# Altium footprint library Diodes.PcbLib: 22 footprints (part 2 of 2)
Each footprint in its own frame and in the unit in brackets; x right, y up, seen from the top. Pads: shape width x height; smd on the part's side, far side on the other; paste and mask are expansions set on the pad; w line width, h text height; cw(c..) or ccw(c..) is an arc to the next point about the centre after c.
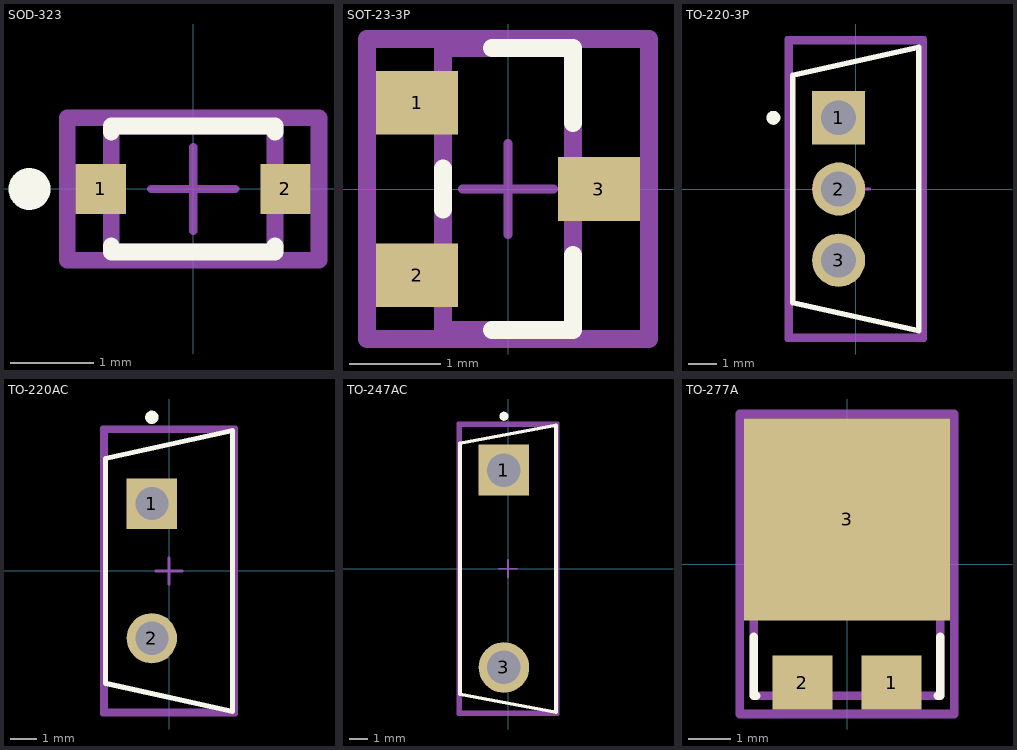
[diagram p1: the footprints below, top view; thin cyan lines are the x and y axes]

## SOD-323 [mm]
pads (2):
  rect 0.6x0.6 smd paste+0 mask+0: 1(-1.1,0) 2(1.1,0)
Top Overlay:
  circle w0.25: c-1.95,0 r0.125
  lines w0.2: -0.975,-0.675 -0.975,-0.75 0.975,-0.75 0.975,-0.675 ; -0.975,0.675 -0.975,0.75 0.975,0.75 0.975,0.675
Top Assembly:
  lines w0.2: -1.5,-0.85 -1.5,0.85 1.5,0.85 1.5,-0.85 -1.5,-0.85
Top 3D Body:
  lines w0.2: -0.975,-0.75 -0.975,0.75 0.975,0.75 0.975,-0.75 -0.975,-0.75
Top Courtyard:
  lines w0.2: -1.5,-0.85 -1.5,0.85 1.5,0.85 1.5,-0.85 -1.5,-0.85
Top Component Center:
  lines w0.1: -0.5,0 0.5,0 ; 0,-0.5 0,0.5
3D body "Diode_Vishay_Semiconductor_1N4148WS-V-GS18_eec.STEP": height 0.25, standoff 0, extent -1.5,-0.85 1.5,0.85

## SOT-23-3P [mm]
pads (3):
  rect 0.9x0.7 smd paste+0 mask+0: 1(-1,0.95) 2(-1,-0.95) 3(1,0)
Top Overlay:
  lines w0.2: -0.715,-0.225 -0.715,0.225 ; -0.175,-1.55 0.715,-1.55 0.715,-0.725 ; -0.175,1.55 0.715,1.55 0.715,0.725
Top Assembly:
  lines w0.2: -1.55,-1.65 -1.55,1.65 1.55,1.65 1.55,-1.65 -1.55,-1.65
Top 3D Body:
  lines w0.2: -0.715,-1.55 -0.715,1.55 0.715,1.55 0.715,-1.55 -0.715,-1.55
Top Courtyard:
  lines w0.2: -1.55,-1.65 -1.55,1.65 1.55,1.65 1.55,-1.65 -1.55,-1.65
Top Component Center:
  lines w0.1: -0.5,0 0.5,0 ; 0,-0.5 0,0.5
3D body "Diode_Vishay_BAT54S-E3-08_eec.STEP": height 0.25, standoff 0, extent -1.55,-1.65 1.55,1.65

## TO-220-3P [mm]
pads (3):
  rect 1.9x1.9 hole 1.25 paste-2539.97 mask+0: 1(-0.61,2.55)
  round 1.9 hole 1.25 paste-2539.97 mask+0: 2(-0.61,0) 3(-0.61,-2.55)
Top Overlay:
  circle w0.25: c-2.95,2.55 r0.125
  lines w0.2: 2.254,-5.08 -2.254,-4.064 -2.254,4.064 2.254,5.08 ; 2.254,-5.03 2.254,5.03
Top Assembly:
  lines w0.2: -2.45,-5.37 -2.45,5.37 2.45,5.37 2.45,-5.37 -2.45,-5.37
Top 3D Body:
  lines w0.2: -2.35,-5.27 -2.35,5.27 2.35,5.27 2.35,-5.27 -2.35,-5.27
Top Courtyard:
  lines w0.2: -2.45,-5.37 -2.45,5.37 2.45,5.37 2.45,-5.37 -2.45,-5.37
Top Component Center:
  lines w0.1: -0.5,0 0.5,0 ; 0,-0.5 0,0.5
3D body "Diode_Vishay_MBR20100CT-E3-4W_eec.STEP": height 0.25, standoff 0, extent -2.45,-5.37 2.45,5.37

## TO-220AC [mm]
pads (2):
  rect 1.9x1.9 hole 1.25 paste-2539.97 mask+0: 1(-0.647,2.54)
  round 1.9 hole 1.25 paste-2539.97 mask+0: 2(-0.647,-2.54)
Top Overlay:
  circle w0.25: c-0.647,5.8 r0.125
  lines w0.2: 2.4,-5.3 -2.4,-4.24 -2.4,4.24 2.4,5.3 ; 2.4,-5.25 2.4,5.25
Top Assembly:
  lines w0.2: -2.5,-5.4 2.5,-5.4 2.5,5.4 -2.5,5.4 -2.5,-5.4
Top 3D Body:
  lines w0.2: -2.4,-5.3 2.4,-5.3 2.4,5.3 -2.4,5.3 -2.4,-5.3
Top Courtyard:
  lines w0.2: -2.5,-5.4 2.5,-5.4 2.5,5.4 -2.5,5.4 -2.5,-5.4
Top Component Center:
  lines w0.1: -0.5,0 0.5,0 ; 0,-0.5 0,0.5
3D body "Diode_Vishay_VS-ETH0806FP-M3_eec.STEP": height 0.25, standoff 0, extent -2.5,-5.4 2.5,5.4

## TO-247AC [mm]
pads (2):
  rect 2.8x2.8 hole 1.85 paste-2539.97 mask+0: 1(-0.228,5.46)
  round 2.8 hole 1.85 paste-2539.97 mask+0: 3(-0.228,-5.46)
Top Overlay:
  circle w0.25: c-0.228,8.435 r0.125
  lines w0.2: -2.655,-6.935 -2.655,6.935 2.655,7.935 2.655,-7.935 -2.655,-6.935
Top Assembly:
  lines w0.2: -2.755,-8.035 2.755,-8.035 2.755,8.035 -2.755,8.035 -2.755,-8.035
Top 3D Body:
  lines w0.2: -2.655,-7.935 2.655,-7.935 2.655,7.935 -2.655,7.935 -2.655,-7.935
Top Courtyard:
  lines w0.2: -2.755,-8.035 2.755,-8.035 2.755,8.035 -2.755,8.035 -2.755,-8.035
Top Component Center:
  lines w0.1: -0.5,0 0.5,0 ; 0,-0.5 0,0.5
3D body "Diode_Vishay_VS-60EPS12-M3_eec.STEP": height 0.25, standoff 0, extent -2.755,-8.035 2.755,8.035

## TO-277A [mm]
pads (3):
  rect 1.4x1.27 smd paste+0 mask+0: 1(1.04,-2.765) 2(-1.04,-2.765)
  rect 4.8x4.72 smd paste+0 mask+0: 3(0,1.04)
Top Overlay:
  lines w0.2: -2.175,-1.695 -2.175,-3.075 -2.115,-3.075 ; 2.115,-3.075 2.175,-3.075 2.175,-1.695
Top Assembly:
  lines w0.2: -2.5,-3.5 2.5,-3.5 2.5,3.5 -2.5,3.5 -2.5,-3.5
Top 3D Body:
  lines w0.2: -2.175,-3.075 2.175,-3.075 2.175,3.075 -2.175,3.075 -2.175,-3.075
Top Courtyard:
  lines w0.2: -2.5,-3.5 2.5,-3.5 2.5,3.5 -2.5,3.5 -2.5,-3.5
Top Component Center:
  lines w0.1: -0.5,0 0.5,0 ; 0,-0.5 0,0.5
3D body "Diode_Vishay_SS10P4HM3_A-H_eec.STEP": height 0.25, standoff 0, extent -2.5,-3.5 2.5,3.5